# Altium integrated library NSC Interface Servo Motor Controller.IntLib: 6 symbols
Pins are listed as number, name and electrical type; pins without a type are passive.

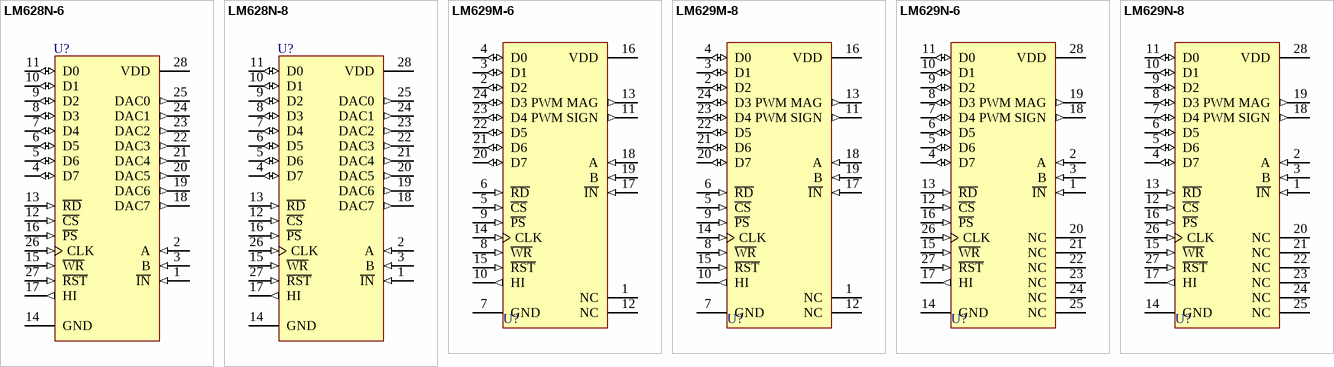
[diagram p0: symbols LM628N-6 to LM629N-8]

## LM628N-6
designator U?
Precision Motion Controller; Published: 15-Apr-2002; LatestRevisionDate: 06-Jun-2005; LatestRevisionNote: Stylized 3D Model Added.; DatasheetVersion: Nov-1999; PackageVersion: 2000; PackageReference: N28B; Publisher: Altium Limited; PackageDescription: DIP; 28 Leads; Row Spacing 15.24 mm; Pitch 2.54 mm; ComponentLink1Description: Manufacturer Link; ComponentLink1URL: http://www.national.com/; ComponentLink2Description: Datasheet; ComponentLink2URL: http://www.national.com/ds.cgi/LM/LM628.pdf; ComponentLink3Description: URL Link1; ComponentLink3URL: http://www.national.com/pf/LM/LM628.html
footprint N28B (DIP; 28 Leads; Row Spacing 15.24 mm; Pitch 2.54 mm)
3D model N28B (DIP; 28 Leads; Row Spacing 15.24 mm; Pitch 2.54 mm)
pins: 1 ~{IN} (in), 2 A (in), 3 B (in), 4 D7 (io), 5 D6 (io), 6 D5 (io), 7 D4 (io), 8 D3 (io), 9 D2 (io), 10 D1 (io), 11 D0 (io), 12 ~{CS} (in), 13 ~{RD} (in), 14 GND (power), 15 ~{WR} (in), 16 ~{PS} (in), 17 HI (out), 18 DAC7 (out), 19 DAC6 (out), 20 DAC5 (out), 21 DAC4 (out), 22 DAC3 (out), 23 DAC2 (out), 24 DAC1 (out), 25 DAC0 (out), 26 CLK (in), 27 ~{RST} (in), 28 VDD (power)

## LM628N-8
designator U?
Precision Motion Controller; Published: 15-Apr-2002; LatestRevisionDate: 06-Jun-2005; LatestRevisionNote: Stylized 3D Model Added.; DatasheetVersion: Nov-1999; PackageVersion: 2000; PackageReference: N28B; Publisher: Altium Limited; PackageDescription: DIP; 28 Leads; Row Spacing 15.24 mm; Pitch 2.54 mm; ComponentLink1Description: Manufacturer Link; ComponentLink1URL: http://www.national.com/; ComponentLink2Description: Datasheet; ComponentLink2URL: http://www.national.com/ds.cgi/LM/LM628.pdf; ComponentLink3Description: URL Link1; ComponentLink3URL: http://www.national.com/pf/LM/LM628.html
footprint N28B (DIP; 28 Leads; Row Spacing 15.24 mm; Pitch 2.54 mm)
3D model N28B (DIP; 28 Leads; Row Spacing 15.24 mm; Pitch 2.54 mm)
pins: 1 ~{IN} (in), 2 A (in), 3 B (in), 4 D7 (io), 5 D6 (io), 6 D5 (io), 7 D4 (io), 8 D3 (io), 9 D2 (io), 10 D1 (io), 11 D0 (io), 12 ~{CS} (in), 13 ~{RD} (in), 14 GND (power), 15 ~{WR} (in), 16 ~{PS} (in), 17 HI (out), 18 DAC7 (out), 19 DAC6 (out), 20 DAC5 (out), 21 DAC4 (out), 22 DAC3 (out), 23 DAC2 (out), 24 DAC1 (out), 25 DAC0 (out), 26 CLK (in), 27 ~{RST} (in), 28 VDD (power)

## LM629M-6
designator U?
Precision Motion Controller; Note: Do not connect to NC pins 1 and 12.; Published: 15-Apr-2002; LatestRevisionDate: 13-Apr-2006; LatestRevisionNote: IPC-7351 Footprint Added.; DatasheetVersion: Nov-1999; PackageVersion: 2000; PackageReference: M24B; Publisher: Altium Limited; PackageDescription: 24-Pin Small Outline Integrated Circuit 1.27 mm Pitch; ComponentLink1Description: Manufacturer Link; ComponentLink1URL: http://www.national.com/; ComponentLink2Description: Datasheet; ComponentLink2URL: http://www.national.com/ds.cgi/LM/LM628.pdf; ComponentLink3Description: URL Link1; ComponentLink3URL: http://www.national.com/pf/LM/LM629.html
footprint M24B_N (SOIC, 24-Leads, Body 15.4x7.5mm, Pitch 1.27mm, IPC Medium Density)
footprint M24B_L (SOIC, 24-Leads, Body 15.4x7.5mm, Pitch 1.27mm, IPC High Density)
footprint M24B_M (SOIC, 24-Leads, Body 15.4x7.5mm, Pitch 1.27mm, IPC Low Density)
3D model M24B (24-Pin Small Outline Integrated Circuit 1.27 mm Pitch)
pins: 1 NC, 2 D2 (io), 3 D1 (io), 4 D0 (io), 5 ~{CS} (in), 6 ~{RD} (in), 7 GND (power), 8 ~{WR} (in), 9 ~{PS} (in), 10 HI (out), 11 PWM SIGN (out), 12 NC, 13 PWM MAG (out), 14 CLK (in), 15 ~{RST} (in), 16 VDD (power), 17 ~{IN} (in), 18 A (in), 19 B (in), 20 D7 (io), 21 D6 (io), 22 D5 (io), 23 D4 (io), 24 D3 (io)

## LM629M-8
designator U?
Precision Motion Controller; Note: Do not connect to NC pins 1 and 12.; Published: 15-Apr-2002; LatestRevisionDate: 13-Apr-2006; LatestRevisionNote: IPC-7351 Footprint Added.; DatasheetVersion: Nov-1999; PackageVersion: 2000; PackageReference: M24B; Publisher: Altium Limited; PackageDescription: 24-Pin Small Outline Integrated Circuit 1.27 mm Pitch; ComponentLink1Description: Manufacturer Link; ComponentLink1URL: http://www.national.com/; ComponentLink2Description: Datasheet; ComponentLink2URL: http://www.national.com/ds.cgi/LM/LM628.pdf; ComponentLink3Description: URL Link1; ComponentLink3URL: http://www.national.com/pf/LM/LM629.html
footprint M24B_N (SOIC, 24-Leads, Body 15.4x7.5mm, Pitch 1.27mm, IPC Medium Density)
footprint M24B_L (SOIC, 24-Leads, Body 15.4x7.5mm, Pitch 1.27mm, IPC High Density)
footprint M24B_M (SOIC, 24-Leads, Body 15.4x7.5mm, Pitch 1.27mm, IPC Low Density)
3D model M24B (24-Pin Small Outline Integrated Circuit 1.27 mm Pitch)
pins: 1 NC, 2 D2 (io), 3 D1 (io), 4 D0 (io), 5 ~{CS} (in), 6 ~{RD} (in), 7 GND (power), 8 ~{WR} (in), 9 ~{PS} (in), 10 HI (out), 11 PWM SIGN (out), 12 NC, 13 PWM MAG (out), 14 CLK (in), 15 ~{RST} (in), 16 VDD (power), 17 ~{IN} (in), 18 A (in), 19 B (in), 20 D7 (io), 21 D6 (io), 22 D5 (io), 23 D4 (io), 24 D3 (io)

## LM629N-6
designator U?
Precision Motion Controller; Published: 15-Apr-2002; LatestRevisionDate: 06-Jun-2005; LatestRevisionNote: Stylized 3D Model Added.; DatasheetVersion: Nov-1999; PackageVersion: 2000; PackageReference: N28B; Publisher: Altium Limited; PackageDescription: DIP; 28 Leads; Row Spacing 15.24 mm; Pitch 2.54 mm; ComponentLink1Description: Manufacturer Link; ComponentLink1URL: http://www.national.com/; ComponentLink2Description: Datasheet; ComponentLink2URL: http://www.national.com/ds.cgi/LM/LM628.pdf; ComponentLink3Description: URL Link1; ComponentLink3URL: http://www.national.com/pf/LM/LM629.html
footprint N28B (DIP; 28 Leads; Row Spacing 15.24 mm; Pitch 2.54 mm)
3D model N28B (DIP; 28 Leads; Row Spacing 15.24 mm; Pitch 2.54 mm)
pins: 1 ~{IN} (in), 2 A (in), 3 B (in), 4 D7 (io), 5 D6 (io), 6 D5 (io), 7 D4 (io), 8 D3 (io), 9 D2 (io), 10 D1 (io), 11 D0 (io), 12 ~{CS} (in), 13 ~{RD} (in), 14 GND (power), 15 ~{WR} (in), 16 ~{PS} (in), 17 HI (out), 18 PWM SIGN (out), 19 PWM MAG (out), 20 NC, 21 NC, 22 NC, 23 NC, 24 NC, 25 NC, 26 CLK (in), 27 ~{RST} (in), 28 VDD (power)

## LM629N-8
designator U?
Precision Motion Controller; Published: 15-Apr-2002; LatestRevisionDate: 06-Jun-2005; LatestRevisionNote: Stylized 3D Model Added.; DatasheetVersion: Nov-1999; PackageVersion: 2000; PackageReference: N28B; Publisher: Altium Limited; PackageDescription: DIP; 28 Leads; Row Spacing 15.24 mm; Pitch 2.54 mm; ComponentLink1Description: Manufacturer Link; ComponentLink1URL: http://www.national.com/; ComponentLink2Description: Datasheet; ComponentLink2URL: http://www.national.com/ds.cgi/LM/LM628.pdf; ComponentLink3Description: URL Link1; ComponentLink3URL: http://www.national.com/pf/LM/LM629.html
footprint N28B (DIP; 28 Leads; Row Spacing 15.24 mm; Pitch 2.54 mm)
3D model N28B (DIP; 28 Leads; Row Spacing 15.24 mm; Pitch 2.54 mm)
pins: 1 ~{IN} (in), 2 A (in), 3 B (in), 4 D7 (io), 5 D6 (io), 6 D5 (io), 7 D4 (io), 8 D3 (io), 9 D2 (io), 10 D1 (io), 11 D0 (io), 12 ~{CS} (in), 13 ~{RD} (in), 14 GND (power), 15 ~{WR} (in), 16 ~{PS} (in), 17 HI (out), 18 PWM SIGN (out), 19 PWM MAG (out), 20 NC, 21 NC, 22 NC, 23 NC, 24 NC, 25 NC, 26 CLK (in), 27 ~{RST} (in), 28 VDD (power)